# Altium footprint library MSOP-10_INV_HO2.8-1B.PcbLib: 1 footprints
Each footprint in its own frame and in the unit in brackets; x right, y up, seen from the top. Pads: shape width x height; smd on the part's side, far side on the other; paste and mask are expansions set on the pad; w line width, h text height; cw(c..) or ccw(c..) is an arc to the next point about the centre after c.
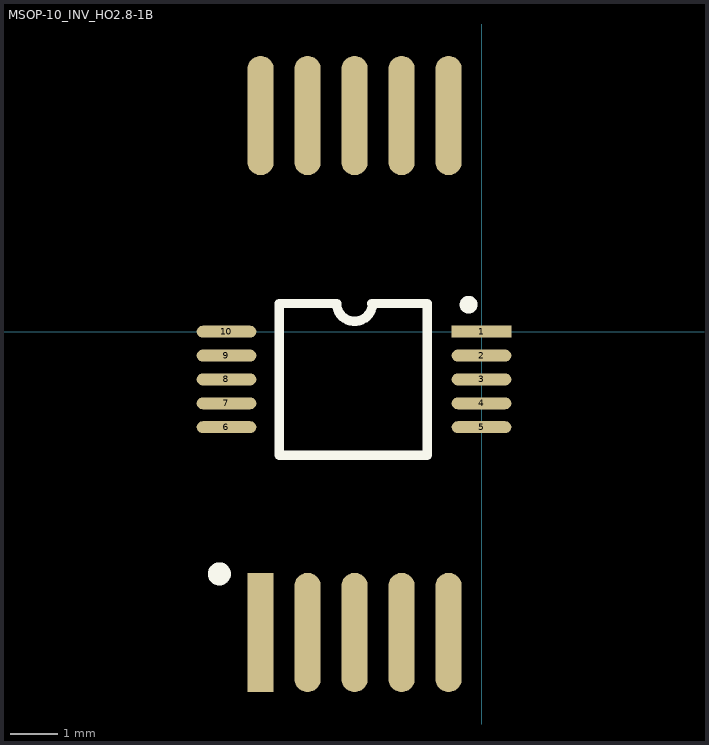
[diagram p0: the footprint, top view; thin cyan lines are the x and y axes]

## MSOP-10_INV_HO2.8-1B [mil] "10-Lead Mini Small Outline Package"
height 40
pads (20):
  rect 50x10 smd: 1(0,0)
  oval 50x10 smd: 2(0,-20) 3(0,-40) 4(0,-60) 5(0,-80) 6(-213.62,-80) 7(-213.62,-60) 8(-213.62,-40) 9(-213.62,-20) 10(-213.62,0)
  rect 22x100 smd: ""(-185.04,-251.97)
  oval 22x100 smd: ""(-185.04,181.1) ""(-145.67,181.1) ""(-106.3,-251.97) ""(-106.3,181.1) ""(-66.93,-251.97) ""(-66.93,181.1) ""(-27.56,-251.97) ""(-27.56,181.1)
  oval 22.01x100 smd: ""(-145.67,-251.97)
Top Overlay:
  circle w10: c-219.63,-202.85 r4.68
  circle w10: c-10.83,22.64 r2.44
  lines w7.87: -121.81,23.62 -169.33,23.62 -169.33,-103.35 -45.31,-103.35 -45.31,23.62 -91.81,23.62 ; -121.34,23.62 ccw(c-106.34,23.62) -91.34,23.62
3D body "MSOP-10.STEP": height -0.79, standoff -43.9, extent -208.19,-102.99 -5.43,22.99
3D body "N02.8-1B.STEP": height 114.17, standoff 0, extent -234.25,-202.89 21.66,131.75